# Altium schematic symbol library Ultrasonic.SchLib: 1 symbol
Pins are listed as number, name and electrical type; pins without a type are passive.

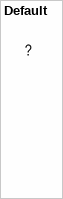
[diagram p0: symbol Default]

## Default
designator ?
Default; Operating temperature: -°C +°C; Mounting type: Surface mount; Dimension: .0mm x .0mm; Height: .0mm